# EAGLE library part 171020302 (library Power modules)
DC DC CONVERTER 0.8-3.6V Manufacturer's datasheet <https://katalog.we-online.de/pm/datasheet/171020302.pdf>
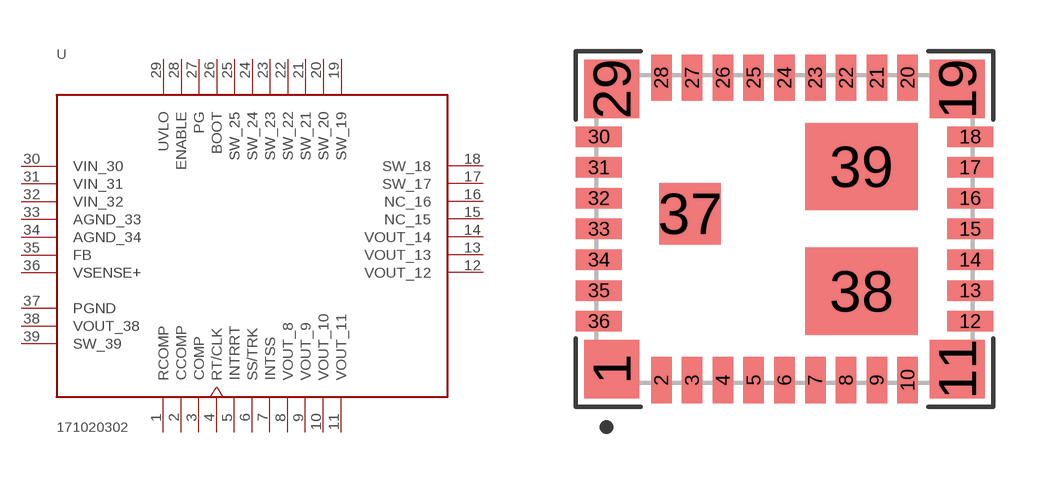
[diagram p4: symbol with the pads of 171020302; footprint 171020302]

Designator prefix U

## 171020302 (CREATED_BY: PCBLayout.com; DIGIKEY_PART_NUMBER: 732-9635-2-ND; MANUFACTURER: Wurth Electronics Inc.; MPN: 171020302; PACKAGE: 39-BQFN)  [171020302]
1  RCOMP
2  CCOMP
3  COMP  out
4  RT/CLK  in
5  INTRRT
6  SS/TRK  in
7  INTSS
8  VOUT_8  pwr
9  VOUT_9  pwr
10  VOUT_10  pwr
11  VOUT_11  pwr
12  VOUT_12  pwr
13  VOUT_13  pwr
14  VOUT_14  pwr
15  NC_15  pas
16  NC_16  pas
17  SW_17  pwr
18  SW_18  pwr
19  SW_19  pwr
20  SW_20  pwr
21  SW_21  pwr
22  SW_22  pwr
23  SW_23  pwr
24  SW_24  pwr
25  SW_25  pwr
26  BOOT  pwr
27  PG  out
28  ENABLE  in
29  UVLO  in
30  VIN_30  pwr
31  VIN_31  pwr
32  VIN_32  pwr
33  AGND_33  pwr
34  AGND_34  pwr
35  FB  in
36  VSENSE+  in
37  PGND  pwr
38  VOUT_38  pwr
39  SW_39  pwr

## Footprint 171020302 (pad centres in mm)
smd 1.6 x 1.7: 1 -5.05,-4.1; 11 5.05,-4.1; 19 5.05,4.1; 29 -5.05,4.1
smd 0.6 x 1.35: 2 -3.6,-4.425; 3 -2.7,-4.425; 4 -1.8,-4.425; 5 -0.9,-4.425; 6 0,-4.425; 7 0.9,-4.425; 8 1.8,-4.425; 9 2.7,-4.425; 10 3.6,-4.425; 20 3.6,4.425; 21 2.7,4.425; 22 1.8,4.425; 23 0.9,4.425; 24 0,4.425; 25 -0.9,4.425; 26 -1.8,4.425; 27 -2.7,4.425; 28 -3.6,4.425
smd 1.35 x 0.6: 12 5.425,-2.7; 13 5.425,-1.8; 14 5.425,-0.9; 15 5.425,0; 16 5.425,0.9; 17 5.425,1.8; 18 5.425,2.7; 30 -5.425,2.7; 31 -5.425,1.8; 32 -5.425,0.9; 33 -5.425,0; 34 -5.425,-0.9; 35 -5.425,-1.8; 36 -5.425,-2.7
smd 1.8 x 1.8: 37 -2.76,0.45
smd 3.3 x 2.56: 38 2.25,-1.82
smd 3.3 x 2.55: 39 2.25,1.825